# Altium integrated library Linear Technology Comparators.IntLib: 630 symbols (part 6 of 24)
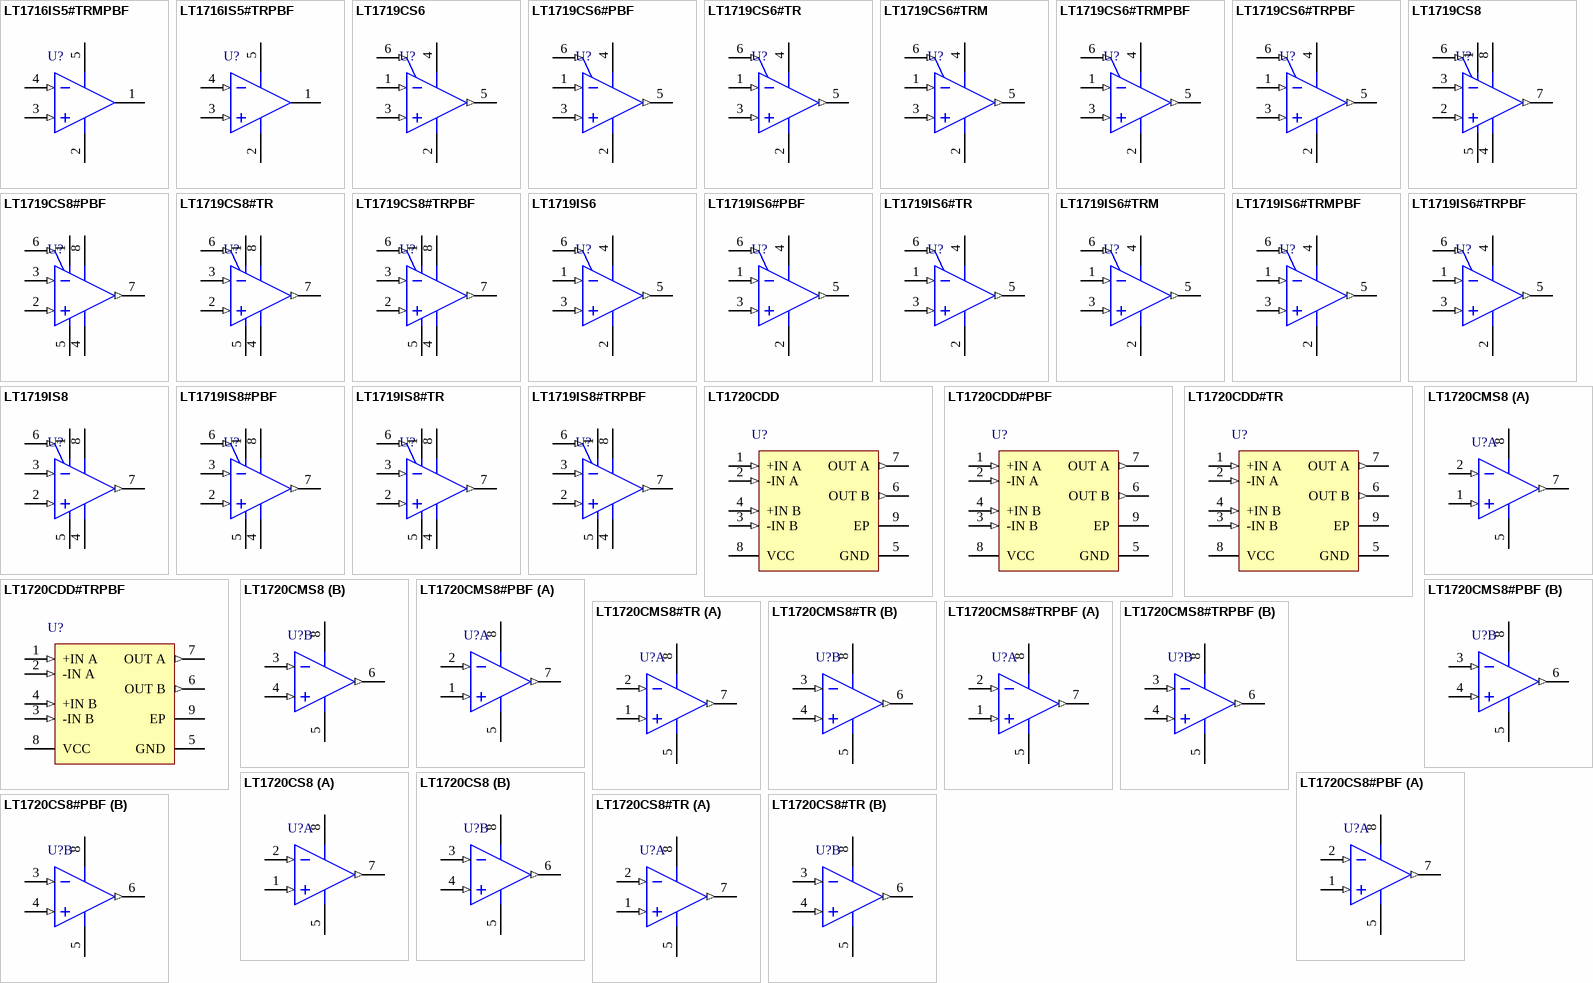
[diagram p29: symbols LT1716IS5#TRMPBF to LT1720CS8#TR]

## LT1719IS6#PBF
designator U?
4.5 ns Single / Dual Supply 3V / 5V Comparator with Rail-to-Rail Output, 1 Channel, 2.7 to 10.5 V, -40 to +85 degC, 6-pin Plastic TSOT-23 (S6); Generic Part Number: LT1719; Manufacturer: Linear Technology; PartNumber: LT1719IS6#PBF; Channels (#): 1; Prop Delay (us): 0.0042; Supply Current (uA) Typical: 4200; Vos (mV) Guaranteed: 2.5; Vos (mV) Typical: 0.4; Vs Max (V): 10.5; Vs Min (V): 2.7; DatasheetVersion: Rev A; PackageReference: S6; PackageDescription: 6-Pin Plastic TSOT-23, Body 2.9 x 1.63 mm, Pitch 0.95 mm; Supplier 1: Farnell; Supplier Part Number 1: 1858852; Supplier 2: Newark; Supplier Part Number 2: 77R2926; Features: Comparator, Separate In/Out Power Supply, Rail-to-Rail Out; RoHS: Y; Supply Voltage Range: 2.7 to 10.5 V; Mounting Technology: Surface Mount; Code_JEDEC: MO-193; ComponentLink1Description: Manufacturer URL; ComponentLink1URL: http://www.linear.com/; ComponentLink2Description: Datasheet; ComponentLink2URL: http://cds.linear.com/docs/en/datasheet/1719fa.pdf; ComponentLink3Description: Package Specification; ComponentLink3URL: http://cds.linear.com/docs/en/packaging/SOT_6_05-08-1636.pdf
footprint LT-S6_N (SOT23, 6-Leads, Body 2.9x1.63mm, Pitch 0.95mm, IPC Medium Density)
footprint LT-S6_L (SOT23, 6-Leads, Body 2.9x1.63mm, Pitch 0.95mm, IPC High Density)
footprint LT-S6_M (SOT23, 6-Leads, Body 2.9x1.63mm, Pitch 0.95mm, IPC Low Density)
pins: 1 -IN (in) "Inverting Input of Comparator", 2 V- (power) "Negative Supply, Usually Grounded.", 3 +IN (in) "Noninverting Input of Comparator.", 4 V+ (power) "Positive Supply Voltage.", 5 OUT (out) "Output of Comparator.", 6 SHDN (in) "Shutdown. Pull to ground to enable comparator."

## LT1719IS6#TR
designator U?
4.5 ns Single / Dual Supply 3V / 5V Comparator with Rail-to-Rail Output, 1 Channel, 2.7 to 10.5 V, -40 to +85 degC, 6-pin Plastic TSOT-23 (S6), Tape and Reel; Generic Part Number: LT1719; Manufacturer: Linear Technology; PartNumber: LT1719IS6#TR; Channels (#): 1; Prop Delay (us): 0.0042; Supply Current (uA) Typical: 4200; Vos (mV) Guaranteed: 2.5; Vos (mV) Typical: 0.4; Vs Max (V): 10.5; Vs Min (V): 2.7; DatasheetVersion: Rev A; PackageReference: S6; PackageDescription: 6-Pin Plastic TSOT-23, Body 2.9 x 1.63 mm, Pitch 0.95 mm; Supplier 1: Digi-Key; Supplier Part Number 1: LT1719IS6TR-ND; Supplier 2: Newark; Supplier Part Number 2: 57M5810; Features: Comparator, Separate In/Out Power Supply, Rail-to-Rail Out; RoHS: N; Supply Voltage Range: 2.7 to 10.5 V; Mounting Technology: Surface Mount; Code_JEDEC: MO-193; ComponentLink1Description: Manufacturer URL; ComponentLink1URL: http://www.linear.com/; ComponentLink2Description: Datasheet; ComponentLink2URL: http://cds.linear.com/docs/en/datasheet/1719fa.pdf; ComponentLink3Description: Package Specification; ComponentLink3URL: http://cds.linear.com/docs/en/packaging/SOT_6_05-08-1636.pdf
footprint LT-S6_N (SOT23, 6-Leads, Body 2.9x1.63mm, Pitch 0.95mm, IPC Medium Density)
footprint LT-S6_L (SOT23, 6-Leads, Body 2.9x1.63mm, Pitch 0.95mm, IPC High Density)
footprint LT-S6_M (SOT23, 6-Leads, Body 2.9x1.63mm, Pitch 0.95mm, IPC Low Density)
pins: 1 -IN (in) "Inverting Input of Comparator", 2 V- (power) "Negative Supply, Usually Grounded.", 3 +IN (in) "Noninverting Input of Comparator.", 4 V+ (power) "Positive Supply Voltage.", 5 OUT (out) "Output of Comparator.", 6 SHDN (in) "Shutdown. Pull to ground to enable comparator."

## LT1719IS6#TRM
designator U?
4.5 ns 3V / 5V Comparator with Rail-to-Rail Output, 1 Channel, 2.7 to 10.5 V, -40 to +85 degC, 6-pin Plastic TSOT-23 (S6), Mini Tape and Reel; Generic Part Number: LT1719; Manufacturer: Linear Technology; PartNumber: LT1719IS6#TRM; Channels (#): 1; Prop Delay (us): 0.0042; Supply Current (uA) Typical: 4200; Vos (mV) Guaranteed: 2.5; Vos (mV) Typical: 0.4; Vs Max (V): 10.5; Vs Min (V): 2.7; DatasheetVersion: Rev A; PackageReference: S6; PackageDescription: 6-Pin Plastic TSOT-23, Body 2.9 x 1.63 mm, Pitch 0.95 mm; Supplier 1: Digi-Key; Supplier Part Number 1: LT1719IS6#TRMTR-ND; Supplier 2: Digi-Key; Supplier Part Number 2: LT1719IS6#TRMCT-ND; Features: Comparator, Separate In/Out Power Supply, Rail-to-Rail Out; RoHS: N; Supply Voltage Range: 2.7 to 10.5 V; Mounting Technology: Surface Mount; Code_JEDEC: MO-193; ComponentLink1Description: Manufacturer URL; ComponentLink1URL: http://www.linear.com/; ComponentLink2Description: Datasheet; ComponentLink2URL: http://cds.linear.com/docs/en/datasheet/1719fa.pdf; ComponentLink3Description: Package Specification; ComponentLink3URL: http://cds.linear.com/docs/en/packaging/SOT_6_05-08-1636.pdf
footprint LT-S6_N (SOT23, 6-Leads, Body 2.9x1.63mm, Pitch 0.95mm, IPC Medium Density)
footprint LT-S6_L (SOT23, 6-Leads, Body 2.9x1.63mm, Pitch 0.95mm, IPC High Density)
footprint LT-S6_M (SOT23, 6-Leads, Body 2.9x1.63mm, Pitch 0.95mm, IPC Low Density)
pins: 1 -IN (in) "Inverting Input of Comparator", 2 V- (power) "Negative Supply, Usually Grounded.", 3 +IN (in) "Noninverting Input of Comparator.", 4 V+ (power) "Positive Supply Voltage.", 5 OUT (out) "Output of Comparator.", 6 SHDN (in) "Shutdown. Pull to ground to enable comparator."

## LT1719IS6#TRMPBF
designator U?
4.5 ns Single / Dual Supply 3V / 5V Comparator with Rail-to-Rail Output, 1 Channel, 2.7 to 10.5 V, -40 to +85 degC, 6-pin Plastic TSOT-23 (S6), Mini Tape and Reel; Generic Part Number: LT1719; Manufacturer: Linear Technology; PartNumber: LT1719IS6#TRMPBF; Channels (#): 1; Prop Delay (us): 0.0042; Supply Current (uA) Typical: 4200; Vos (mV) Guaranteed: 2.5; Vos (mV) Typical: 0.4; Vs Max (V): 10.5; Vs Min (V): 2.7; DatasheetVersion: Rev A; PackageReference: S6; PackageDescription: 6-Pin Plastic TSOT-23, Body 2.9 x 1.63 mm, Pitch 0.95 mm; Supplier 1: Digi-Key; Supplier Part Number 1: LT1719IS6#TRMPBFTR-ND; Supplier 2: Digi-Key; Supplier Part Number 2: LT1719IS6#TRMPBFCT-ND; Supplier 3: Digi-Key; Supplier Part Number 3: LT1719IS6#TRMPBFDKR-ND; Supplier 4: Farnell; Supplier Part Number 4: 1663773; Supplier 5: Farnell; Supplier Part Number 5: 1663773RL; Supplier 6: Newark; Supplier Part Number 6: 57M5812; Features: Comparator, Separate In/Out Power Supply, Rail-to-Rail Out; RoHS: Y; Supply Voltage Range: 2.7 to 10.5 V; Mounting Technology: Surface Mount; Code_JEDEC: MO-193; ComponentLink1Description: Manufacturer URL; ComponentLink1URL: http://www.linear.com/; ComponentLink2Description: Datasheet; ComponentLink2URL: http://cds.linear.com/docs/en/datasheet/1719fa.pdf; ComponentLink3Description: Package Specification; ComponentLink3URL: http://cds.linear.com/docs/en/packaging/SOT_6_05-08-1636.pdf
footprint LT-S6_N (SOT23, 6-Leads, Body 2.9x1.63mm, Pitch 0.95mm, IPC Medium Density)
footprint LT-S6_L (SOT23, 6-Leads, Body 2.9x1.63mm, Pitch 0.95mm, IPC High Density)
footprint LT-S6_M (SOT23, 6-Leads, Body 2.9x1.63mm, Pitch 0.95mm, IPC Low Density)
pins: 1 -IN (in) "Inverting Input of Comparator", 2 V- (power) "Negative Supply, Usually Grounded.", 3 +IN (in) "Noninverting Input of Comparator.", 4 V+ (power) "Positive Supply Voltage.", 5 OUT (out) "Output of Comparator.", 6 SHDN (in) "Shutdown. Pull to ground to enable comparator."

## LT1719IS6#TRPBF
designator U?
4.5 ns Single / Dual Supply 3V / 5V Comparator with Rail-to-Rail Output, 1 Channel, 2.7 to 10.5 V, -40 to +85 degC, 6-pin Plastic TSOT-23 (S6), Tape and Reel; Generic Part Number: LT1719; Manufacturer: Linear Technology; PartNumber: LT1719IS6#TRPBF; Channels (#): 1; Prop Delay (us): 0.0042; Supply Current (uA) Typical: 4200; Vos (mV) Guaranteed: 2.5; Vos (mV) Typical: 0.4; Vs Max (V): 10.5; Vs Min (V): 2.7; DatasheetVersion: Rev A; PackageReference: S6; PackageDescription: 6-Pin Plastic TSOT-23, Body 2.9 x 1.63 mm, Pitch 0.95 mm; Supplier 1: Digi-Key; Supplier Part Number 1: LT1719IS6#TRPBF-ND; Supplier 2: Newark; Supplier Part Number 2: 57M5813; Features: Comparator, Separate In/Out Power Supply, Rail-to-Rail Out; RoHS: Y; Supply Voltage Range: 2.7 to 10.5 V; Mounting Technology: Surface Mount; Code_JEDEC: MO-193; ComponentLink1Description: Manufacturer URL; ComponentLink1URL: http://www.linear.com/; ComponentLink2Description: Datasheet; ComponentLink2URL: http://cds.linear.com/docs/en/datasheet/1719fa.pdf; ComponentLink3Description: Package Specification; ComponentLink3URL: http://cds.linear.com/docs/en/packaging/SOT_6_05-08-1636.pdf
footprint LT-S6_N (SOT23, 6-Leads, Body 2.9x1.63mm, Pitch 0.95mm, IPC Medium Density)
footprint LT-S6_L (SOT23, 6-Leads, Body 2.9x1.63mm, Pitch 0.95mm, IPC High Density)
footprint LT-S6_M (SOT23, 6-Leads, Body 2.9x1.63mm, Pitch 0.95mm, IPC Low Density)
pins: 1 -IN (in) "Inverting Input of Comparator", 2 V- (power) "Negative Supply, Usually Grounded.", 3 +IN (in) "Noninverting Input of Comparator.", 4 V+ (power) "Positive Supply Voltage.", 5 OUT (out) "Output of Comparator.", 6 SHDN (in) "Shutdown. Pull to ground to enable comparator."

## LT1719IS8
designator U?
4.5 ns Dual Supply 3 V / 5 V Comparator with Rail-to-Rail Output, 1 Channel, 2.7 to 10.5 V, -40 to +85 degC, 8-pin SOP (S8); Generic Part Number: LT1719; Manufacturer: Linear Technology; PartNumber: LT1719IS8; Channels (#): 1; Prop Delay (us): 0.0042; Supply Current (uA) Typical: 4200; Vos (mV) Guaranteed: 2.5; Vos (mV) Typical: 0.4; Vs Max (V): 10.5; Vs Min (V): 2.7; DatasheetVersion: Rev A; PackageReference: S8; PackageDescription: 8-Pin Plastic Small Outline (Narrow .150 Inch), Body 4.9 x 3.9 mm, Pitch 1.27 mm; Supplier 1: Digi-Key; Supplier Part Number 1: LT1719IS8-ND; Supplier 2: Newark; Supplier Part Number 2: 57M5814; Features: Comparator, Separate In/Out Power Supply, Rail-to-Rail Out; RoHS: N; Supply Voltage Range: 2.7 to 10.5 V; Mounting Technology: Surface Mount; ComponentLink1Description: Manufacturer URL; ComponentLink1URL: http://www.linear.com/; ComponentLink2Description: Datasheet; ComponentLink2URL: http://cds.linear.com/docs/en/datasheet/1719fa.pdf; ComponentLink3Description: Package Specification; ComponentLink3URL: http://cds.linear.com/docs/en/packaging/05081610_G_SO8.pdf
footprint LT-S8_N (SOP, 8-Leads, Body 4.9x3.9mm, Pitch 1.27mm, IPC Medium Density)
footprint LT-S8_L (SOP, 8-Leads, Body 4.9x3.9mm, Pitch 1.27mm, IPC High Density)
footprint LT-S8_M (SOP, 8-Leads, Body 4.9x3.9mm, Pitch 1.27mm, IPC Low Density)
pins: 1 VCC (power) "Positive Supply Voltage for Input Stage.", 2 +IN (in) "Noninverting Input of Comparator.", 3 -IN (in) "Inverting Input of Comparator.", 4 VEE (power) "Negative Supply Voltage for Input Stage and Chip Substrate.", 5 GND (power) "Ground.", 6 SHDN (in) "Shutdown. Pull to ground to enable comparator.", 7 OUT (out) "Output of Comparator.", 8 +VS (power) "Positive Supply Voltage for Output Stage."

## LT1719IS8#PBF
designator U?
4.5 ns Single / Dual Supply 3 V / 5 V Comparator with Rail-to-Rail Output, 1 Channel, 2.7 to 10.5 V, -40 to +85 degC, 8-pin SOP (S8); Generic Part Number: LT1719; Manufacturer: Linear Technology; PartNumber: LT1719IS8#PBF; Channels (#): 1; Prop Delay (us): 0.0042; Supply Current (uA) Typical: 4200; Vos (mV) Guaranteed: 2.5; Vos (mV) Typical: 0.4; Vs Max (V): 10.5; Vs Min (V): 2.7; DatasheetVersion: Rev A; PackageReference: S8; PackageDescription: 8-Pin Plastic Small Outline (Narrow .150 Inch), Body 4.9 x 3.9 mm, Pitch 1.27 mm; Supplier 1: Digi-Key; Supplier Part Number 1: LT1719IS8#PBF-ND; Supplier 2: Farnell; Supplier Part Number 2: 2254826; Supplier 3: Newark; Supplier Part Number 3: 57M5815; Features: Comparator, Separate In/Out Power Supply, Rail-to-Rail Out; RoHS: Y; Supply Voltage Range: 2.7 to 10.5 V; Mounting Technology: Surface Mount; ComponentLink1Description: Manufacturer URL; ComponentLink1URL: http://www.linear.com/; ComponentLink2Description: Datasheet; ComponentLink2URL: http://cds.linear.com/docs/en/datasheet/1719fa.pdf; ComponentLink3Description: Package Specification; ComponentLink3URL: http://cds.linear.com/docs/en/packaging/05081610_G_SO8.pdf
footprint LT-S8_N (SOP, 8-Leads, Body 4.9x3.9mm, Pitch 1.27mm, IPC Medium Density)
footprint LT-S8_L (SOP, 8-Leads, Body 4.9x3.9mm, Pitch 1.27mm, IPC High Density)
footprint LT-S8_M (SOP, 8-Leads, Body 4.9x3.9mm, Pitch 1.27mm, IPC Low Density)
pins: 1 VCC (power) "Positive Supply Voltage for Input Stage.", 2 +IN (in) "Noninverting Input of Comparator.", 3 -IN (in) "Inverting Input of Comparator.", 4 VEE (power) "Negative Supply Voltage for Input Stage and Chip Substrate.", 5 GND (power) "Ground.", 6 SHDN (in) "Shutdown. Pull to ground to enable comparator.", 7 OUT (out) "Output of Comparator.", 8 +VS (power) "Positive Supply Voltage for Output Stage."

## LT1719IS8#TR
designator U?
4.5 ns Dual Supply 3 V / 5 V Comparator with Rail-to-Rail Output, 1 Channel, 2.7 to 10.5 V, -40 to +85 degC, 8-pin SOP (S8), Tape and Reel; Generic Part Number: LT1719; Manufacturer: Linear Technology; PartNumber: LT1719IS8#TR; Channels (#): 1; Prop Delay (us): 0.0042; Supply Current (uA) Typical: 4200; Vos (mV) Guaranteed: 2.5; Vos (mV) Typical: 0.4; Vs Max (V): 10.5; Vs Min (V): 2.7; DatasheetVersion: Rev A; PackageReference: S8; PackageDescription: 8-Pin Plastic Small Outline (Narrow .150 Inch), Body 4.9 x 3.9 mm, Pitch 1.27 mm; Supplier 1: Digi-Key; Supplier Part Number 1: LT1719IS8#TR-ND; Supplier 2: Newark; Supplier Part Number 2: 57M5816; Features: Comparator, Separate In/Out Power Supply, Rail-to-Rail Out; RoHS: N; Supply Voltage Range: 2.7 to 10.5 V; Mounting Technology: Surface Mount; ComponentLink1Description: Manufacturer URL; ComponentLink1URL: http://www.linear.com/; ComponentLink2Description: Datasheet; ComponentLink2URL: http://cds.linear.com/docs/en/datasheet/1719fa.pdf; ComponentLink3Description: Package Specification; ComponentLink3URL: http://cds.linear.com/docs/en/packaging/05081610_G_SO8.pdf
footprint LT-S8_N (SOP, 8-Leads, Body 4.9x3.9mm, Pitch 1.27mm, IPC Medium Density)
footprint LT-S8_L (SOP, 8-Leads, Body 4.9x3.9mm, Pitch 1.27mm, IPC High Density)
footprint LT-S8_M (SOP, 8-Leads, Body 4.9x3.9mm, Pitch 1.27mm, IPC Low Density)
pins: 1 VCC (power) "Positive Supply Voltage for Input Stage.", 2 +IN (in) "Noninverting Input of Comparator.", 3 -IN (in) "Inverting Input of Comparator.", 4 VEE (power) "Negative Supply Voltage for Input Stage and Chip Substrate.", 5 GND (power) "Ground.", 6 SHDN (in) "Shutdown. Pull to ground to enable comparator.", 7 OUT (out) "Output of Comparator.", 8 +VS (power) "Positive Supply Voltage for Output Stage."

## LT1719IS8#TRPBF
designator U?
4.5 ns Dual Supply 3 V / 5 V Comparator with Rail-to-Rail Output, 1 Channel, 2.7 to 10.5 V, -40 to +85 degC, 8-pin SOP (S8), Tape and Reel; Generic Part Number: LT1719; Manufacturer: Linear Technology; PartNumber: LT1719IS8#TRPBF; Channels (#): 1; Prop Delay (us): 0.0042; Supply Current (uA) Typical: 4200; Vos (mV) Guaranteed: 2.5; Vos (mV) Typical: 0.4; Vs Max (V): 10.5; Vs Min (V): 2.7; DatasheetVersion: Rev A; PackageReference: S8; PackageDescription: 8-Pin Plastic Small Outline (Narrow .150 Inch), Body 4.9 x 3.9 mm, Pitch 1.27 mm; Supplier 1: Digi-Key; Supplier Part Number 1: LT1719IS8#TRPBF-ND; Supplier 2: Newark; Supplier Part Number 2: 57M5817; Features: Comparator, Separate In/Out Power Supply, Rail-to-Rail Out; RoHS: Y; Supply Voltage Range: 2.7 to 10.5 V; Mounting Technology: Surface Mount; ComponentLink1Description: Manufacturer URL; ComponentLink1URL: http://www.linear.com/; ComponentLink2Description: Datasheet; ComponentLink2URL: http://cds.linear.com/docs/en/datasheet/1719fa.pdf; ComponentLink3Description: Package Specification; ComponentLink3URL: http://cds.linear.com/docs/en/packaging/05081610_G_SO8.pdf
footprint LT-S8_N (SOP, 8-Leads, Body 4.9x3.9mm, Pitch 1.27mm, IPC Medium Density)
footprint LT-S8_L (SOP, 8-Leads, Body 4.9x3.9mm, Pitch 1.27mm, IPC High Density)
footprint LT-S8_M (SOP, 8-Leads, Body 4.9x3.9mm, Pitch 1.27mm, IPC Low Density)
pins: 1 VCC (power) "Positive Supply Voltage for Input Stage.", 2 +IN (in) "Noninverting Input of Comparator.", 3 -IN (in) "Inverting Input of Comparator.", 4 VEE (power) "Negative Supply Voltage for Input Stage and Chip Substrate.", 5 GND (power) "Ground.", 6 SHDN (in) "Shutdown. Pull to ground to enable comparator.", 7 OUT (out) "Output of Comparator.", 8 +VS (power) "Positive Supply Voltage for Output Stage."

## LT1720CDD
designator U?
4.5 ns, Single Supply 3 V / 5 V Comparator with Rail-to-Rail Outputs, 2 Channels, 2.7 to 6 V, 0 to +70 degC, 8-pin Plastic DFN (DD8); Generic Part Number: LT1720; Manufacturer: Linear Technology; PartNumber: LT1720CDD; Channels (#): 2; Prop Delay (us): 0.0045; Supply Current (uA) Typical: 4000; Vos (mV) Guaranteed: 3; Vos (mV) Typical: 1; Vs Max (V): 6; Vs Min (V): 2.7; DatasheetVersion: Rev C; PackageReference: DD8; PackageDescription: 8-Pin Plastic DFN, Body 3 × 3 mm, Pitch 0.5 mm; Supplier 1: Digi-Key; Supplier Part Number 1: LT1720CDD-ND; Features: Comparator, Rail-to-Rail Out; RoHS: N; Supply Voltage Range: 2.7 to 6 V; Mounting Technology: Surface Mount; Code_JEDEC: M0-229; ComponentLink1Description: Manufacturer URL; ComponentLink1URL: http://www.linear.com/; ComponentLink2Description: Datasheet; ComponentLink2URL: http://cds.linear.com/docs/en/datasheet/17201fc.pdf; ComponentLink3Description: Package Specification; ComponentLink3URL: http://cds.linear.com/docs/en/packaging/DFN_8_05-08-1698.pdf
footprint LT-DD8_V (SON, 8-Leads, Body 3x3mm, Pitch 0.5mm, Thermal Pad 2.38x1.65mm)
pins: 1 +IN A (in) "Noninverting Input of Comparator A.", 2 -IN A (in) "Inverting Input of Comparator A.", 3 -IN B (in) "Inverting Input of Comparator B.", 4 +IN B (in) "Noninverting Input of Comparator B.", 5 GND (power) "Ground.", 6 OUT B (out) "Output of Comparator B.", 7 OUT A (out) "Output of Comparator A.", 8 VCC (power) "Positive Supply Voltage.", 9 EP (power)

## LT1720CDD#PBF
designator U?
4.5 ns, Single Supply 3 V / 5 V Comparator with Rail-to-Rail Outputs, 2 Channels, 2.7 to 6 V, 0 to +70 degC, 8-pin Plastic DFN (DD8); Generic Part Number: LT1720; Manufacturer: Linear Technology; PartNumber: LT1720CDD#PBF; Channels (#): 2; Prop Delay (us): 0.0045; Supply Current (uA) Typical: 4000; Vos (mV) Guaranteed: 3; Vos (mV) Typical: 1; Vs Max (V): 6; Vs Min (V): 2.7; DatasheetVersion: Rev C; PackageReference: DD8; PackageDescription: 8-Pin Plastic DFN, Body 3 × 3 mm, Pitch 0.5 mm; Supplier 1: Digi-Key; Supplier Part Number 1: LT1720CDD#PBF-ND; Supplier 2: Farnell; Supplier Part Number 2: 2294777; Features: Comparator, Rail-to-Rail Out; RoHS: Y; Supply Voltage Range: 2.7 to 6 V; Mounting Technology: Surface Mount; Code_JEDEC: M0-229; ComponentLink1Description: Manufacturer URL; ComponentLink1URL: http://www.linear.com/; ComponentLink2Description: Datasheet; ComponentLink2URL: http://cds.linear.com/docs/en/datasheet/17201fc.pdf; ComponentLink3Description: Package Specification; ComponentLink3URL: http://cds.linear.com/docs/en/packaging/DFN_8_05-08-1698.pdf
footprint LT-DD8_V (SON, 8-Leads, Body 3x3mm, Pitch 0.5mm, Thermal Pad 2.38x1.65mm)
pins: 1 +IN A (in) "Noninverting Input of Comparator A.", 2 -IN A (in) "Inverting Input of Comparator A.", 3 -IN B (in) "Inverting Input of Comparator B.", 4 +IN B (in) "Noninverting Input of Comparator B.", 5 GND (power) "Ground.", 6 OUT B (out) "Output of Comparator B.", 7 OUT A (out) "Output of Comparator A.", 8 VCC (power) "Positive Supply Voltage.", 9 EP (power)

## LT1720CDD#TR
designator U?
4.5 ns, Single Supply 3 V / 5 V Comparator with Rail-to-Rail Outputs, 2 Channels, 2.7 to 6 V, 0 to +70 degC, 8-pin Plastic DFN (DD8), Tape and Reel; Generic Part Number: LT1720; Manufacturer: Linear Technology; PartNumber: LT1720CDD#TR; Channels (#): 2; Prop Delay (us): 0.0045; Supply Current (uA) Typical: 4000; Vos (mV) Guaranteed: 3; Vos (mV) Typical: 1; Vs Max (V): 6; Vs Min (V): 2.7; DatasheetVersion: Rev C; PackageReference: DD8; PackageDescription: 8-Pin Plastic DFN, Body 3 × 3 mm, Pitch 0.5 mm; Supplier 1: Digi-Key; Supplier Part Number 1: LT1720CDD#TR-ND; Features: Comparator, Rail-to-Rail Out; RoHS: N; Supply Voltage Range: 2.7 to 6 V; Mounting Technology: Surface Mount; Code_JEDEC: M0-229; ComponentLink1Description: Manufacturer URL; ComponentLink1URL: http://www.linear.com/; ComponentLink2Description: Datasheet; ComponentLink2URL: http://cds.linear.com/docs/en/datasheet/17201fc.pdf; ComponentLink3Description: Package Specification; ComponentLink3URL: http://cds.linear.com/docs/en/packaging/DFN_8_05-08-1698.pdf
footprint LT-DD8_V (SON, 8-Leads, Body 3x3mm, Pitch 0.5mm, Thermal Pad 2.38x1.65mm)
pins: 1 +IN A (in) "Noninverting Input of Comparator A.", 2 -IN A (in) "Inverting Input of Comparator A.", 3 -IN B (in) "Inverting Input of Comparator B.", 4 +IN B (in) "Noninverting Input of Comparator B.", 5 GND (power) "Ground.", 6 OUT B (out) "Output of Comparator B.", 7 OUT A (out) "Output of Comparator A.", 8 VCC (power) "Positive Supply Voltage.", 9 EP (power)

## LT1720CDD#TRPBF
designator U?
4.5 ns, Single Supply 3 V / 5 V Comparator with Rail-to-Rail Outputs, 2 Channels, 2.7 to 6 V, 0 to +70 degC, 8-pin Plastic DFN (DD8), Tape and Reel; Generic Part Number: LT1720; Manufacturer: Linear Technology; PartNumber: LT1720CDD#TRPBF; Channels (#): 2; Prop Delay (us): 0.0045; Supply Current (uA) Typical: 4000; Vos (mV) Guaranteed: 3; Vos (mV) Typical: 1; Vs Max (V): 6; Vs Min (V): 2.7; DatasheetVersion: Rev C; PackageReference: DD8; PackageDescription: 8-Pin Plastic DFN, Body 3 × 3 mm, Pitch 0.5 mm; Supplier 1: Digi-Key; Supplier Part Number 1: LT1720CDD#TRPBF-ND; Features: Comparator, Rail-to-Rail Out; RoHS: Y; Supply Voltage Range: 2.7 to 6 V; Mounting Technology: Surface Mount; Code_JEDEC: M0-229; ComponentLink1Description: Manufacturer URL; ComponentLink1URL: http://www.linear.com/; ComponentLink2Description: Datasheet; ComponentLink2URL: http://cds.linear.com/docs/en/datasheet/17201fc.pdf; ComponentLink3Description: Package Specification; ComponentLink3URL: http://cds.linear.com/docs/en/packaging/DFN_8_05-08-1698.pdf
footprint LT-DD8_V (SON, 8-Leads, Body 3x3mm, Pitch 0.5mm, Thermal Pad 2.38x1.65mm)
pins: 1 +IN A (in) "Noninverting Input of Comparator A.", 2 -IN A (in) "Inverting Input of Comparator A.", 3 -IN B (in) "Inverting Input of Comparator B.", 4 +IN B (in) "Noninverting Input of Comparator B.", 5 GND (power) "Ground.", 6 OUT B (out) "Output of Comparator B.", 7 OUT A (out) "Output of Comparator A.", 8 VCC (power) "Positive Supply Voltage.", 9 EP (power)

## LT1720CMS8
designator U?
4.5 ns, Single Supply 3 V / 5 V Comparator with Rail-to-Rail Outputs, 2 Channels, 2.7 to 6 V, 0 to +70 degC, 8-pin Plastic MSOP (MS8); Generic Part Number: LT1720; Manufacturer: Linear Technology; PartNumber: LT1720CMS8; Channels (#): 2; Prop Delay (us): 0.0045; Supply Current (uA) Typical: 4000; Vos (mV) Guaranteed: 3; Vos (mV) Typical: 1; Vs Max (V): 6; Vs Min (V): 2.7; DatasheetVersion: Rev C; PackageReference: MS8; PackageDescription: 8-Pin Plastic MSOP, Body 3 x 3 mm, Pitch 0.65 mm; Supplier 1: Digi-Key; Supplier Part Number 1: LT1720CMS8-ND; Features: Comparator, Rail-to-Rail Out; RoHS: N; Supply Voltage Range: 2.7 to 6 V; Mounting Technology: Surface Mount; ComponentLink1Description: Manufacturer URL; ComponentLink1URL: http://www.linear.com/; ComponentLink2Description: Datasheet; ComponentLink2URL: http://cds.linear.com/docs/en/datasheet/17201fc.pdf; ComponentLink3Description: Package Specification; ComponentLink3URL: http://cds.linear.com/docs/en/packaging/MSOP_8_05-08-1660.pdf
footprint LT-MS8_N (SOP, 8-Leads, Body 3x3mm, Pitch 0.65mm, IPC Medium Density)
footprint LT-MS8_L (SOP, 8-Leads, Body 3x3mm, Pitch 0.65mm, IPC High Density)
footprint LT-MS8_M (SOP, 8-Leads, Body 3x3mm, Pitch 0.65mm, IPC Low Density)
pins on every part: 5 GND (power), 8 VCC (power)
part A pins: 1 +INA (in), 2 -INA (in), 7 OUTA (out)
part B pins: 3 -INB (in), 4 +INB (in), 6 OUTB (out)

## LT1720CMS8#PBF
designator U?
4.5 ns, Single Supply 3 V / 5 V Comparator with Rail-to-Rail Outputs, 2 Channels, 2.7 to 6 V, 0 to +70 degC, 8-pin Plastic MSOP (MS8); Generic Part Number: LT1720; Manufacturer: Linear Technology; PartNumber: LT1720CMS8#PBF; Channels (#): 2; Prop Delay (us): 0.0045; Supply Current (uA) Typical: 4000; Vos (mV) Guaranteed: 3; Vos (mV) Typical: 1; Vs Max (V): 6; Vs Min (V): 2.7; DatasheetVersion: Rev C; PackageReference: MS8; PackageDescription: 8-Pin Plastic MSOP, Body 3 x 3 mm, Pitch 0.65 mm; Supplier 1: Digi-Key; Supplier Part Number 1: LT1720CMS8#PBF-ND; Supplier 2: Farnell; Supplier Part Number 2: 2254828; Supplier 3: Newark; Supplier Part Number 3: 57M5823; Features: Comparator, Rail-to-Rail Out; RoHS: Y; Supply Voltage Range: 2.7 to 6 V; Mounting Technology: Surface Mount; ComponentLink1Description: Manufacturer URL; ComponentLink1URL: http://www.linear.com/; ComponentLink2Description: Datasheet; ComponentLink2URL: http://cds.linear.com/docs/en/datasheet/17201fc.pdf; ComponentLink3Description: Package Specification; ComponentLink3URL: http://cds.linear.com/docs/en/packaging/MSOP_8_05-08-1660.pdf
footprint LT-MS8_N (SOP, 8-Leads, Body 3x3mm, Pitch 0.65mm, IPC Medium Density)
footprint LT-MS8_L (SOP, 8-Leads, Body 3x3mm, Pitch 0.65mm, IPC High Density)
footprint LT-MS8_M (SOP, 8-Leads, Body 3x3mm, Pitch 0.65mm, IPC Low Density)
pins on every part: 5 GND (power), 8 VCC (power)
part A pins: 1 +INA (in), 2 -INA (in), 7 OUTA (out)
part B pins: 3 -INB (in), 4 +INB (in), 6 OUTB (out)

## LT1720CMS8#TR
designator U?
4.5 ns, Single Supply 3 V / 5 V Comparator with Rail-to-Rail Outputs, 2 Channels, 2.7 to 6 V, 0 to +70 degC, 8-pin Plastic MSOP (MS8), Tape and Reel; Generic Part Number: LT1720; Manufacturer: Linear Technology; PartNumber: LT1720CMS8#TR; Channels (#): 2; Prop Delay (us): 0.0045; Supply Current (uA) Typical: 4000; Vos (mV) Guaranteed: 3; Vos (mV) Typical: 1; Vs Max (V): 6; Vs Min (V): 2.7; DatasheetVersion: Rev C; PackageReference: MS8; PackageDescription: 8-Pin Plastic MSOP, Body 3 x 3 mm, Pitch 0.65 mm; Supplier 1: Digi-Key; Supplier Part Number 1: LT1720CMS8#TR-ND; Features: Comparator, Rail-to-Rail Out; RoHS: N; Supply Voltage Range: 2.7 to 6 V; Mounting Technology: Surface Mount; ComponentLink1Description: Manufacturer URL; ComponentLink1URL: http://www.linear.com/; ComponentLink2Description: Datasheet; ComponentLink2URL: http://cds.linear.com/docs/en/datasheet/17201fc.pdf; ComponentLink3Description: Package Specification; ComponentLink3URL: http://cds.linear.com/docs/en/packaging/MSOP_8_05-08-1660.pdf
footprint LT-MS8_N (SOP, 8-Leads, Body 3x3mm, Pitch 0.65mm, IPC Medium Density)
footprint LT-MS8_L (SOP, 8-Leads, Body 3x3mm, Pitch 0.65mm, IPC High Density)
footprint LT-MS8_M (SOP, 8-Leads, Body 3x3mm, Pitch 0.65mm, IPC Low Density)
pins on every part: 5 GND (power), 8 VCC (power)
part A pins: 1 +INA (in), 2 -INA (in), 7 OUTA (out)
part B pins: 3 -INB (in), 4 +INB (in), 6 OUTB (out)

## LT1720CMS8#TRPBF
designator U?
4.5 ns, Single Supply 3 V / 5 V Comparator with Rail-to-Rail Outputs, 2 Channels, 2.7 to 6 V, 0 to +70 degC, 8-pin Plastic MSOP (MS8), Tape and Reel; Generic Part Number: LT1720; Manufacturer: Linear Technology; PartNumber: LT1720CMS8#TRPBF; Channels (#): 2; Prop Delay (us): 0.0045; Supply Current (uA) Typical: 4000; Vos (mV) Guaranteed: 3; Vos (mV) Typical: 1; Vs Max (V): 6; Vs Min (V): 2.7; DatasheetVersion: Rev C; PackageReference: MS8; PackageDescription: 8-Pin Plastic MSOP, Body 3 x 3 mm, Pitch 0.65 mm; Supplier 1: Digi-Key; Supplier Part Number 1: LT1720CMS8#TRPBF-ND; Features: Comparator, Rail-to-Rail Out; RoHS: Y; Supply Voltage Range: 2.7 to 6 V; Mounting Technology: Surface Mount; ComponentLink1Description: Manufacturer URL; ComponentLink1URL: http://www.linear.com/; ComponentLink2Description: Datasheet; ComponentLink2URL: http://cds.linear.com/docs/en/datasheet/17201fc.pdf; ComponentLink3Description: Package Specification; ComponentLink3URL: http://cds.linear.com/docs/en/packaging/MSOP_8_05-08-1660.pdf
footprint LT-MS8_N (SOP, 8-Leads, Body 3x3mm, Pitch 0.65mm, IPC Medium Density)
footprint LT-MS8_L (SOP, 8-Leads, Body 3x3mm, Pitch 0.65mm, IPC High Density)
footprint LT-MS8_M (SOP, 8-Leads, Body 3x3mm, Pitch 0.65mm, IPC Low Density)
pins on every part: 5 GND (power), 8 VCC (power)
part A pins: 1 +INA (in), 2 -INA (in), 7 OUTA (out)
part B pins: 3 -INB (in), 4 +INB (in), 6 OUTB (out)

## LT1720CS8
designator U?
4.5 ns, Single Supply 3 V / 5 V Comparator with Rail-to-Rail Outputs, 2 Channels, 2.7 to 6 V, 0 to +70 degC, 8-pin SOP (S8); Generic Part Number: LT1720; Manufacturer: Linear Technology; PartNumber: LT1720CS8; Channels (#): 2; Prop Delay (us): 0.0045; Supply Current (uA) Typical: 4000; Vos (mV) Guaranteed: 3; Vos (mV) Typical: 1; Vs Max (V): 6; Vs Min (V): 2.7; DatasheetVersion: Rev C; PackageReference: S8; PackageDescription: 8-Pin Plastic Small Outline (Narrow .150 Inch), Body 4.9 x 3.9 mm, Pitch 1.27 mm; Supplier 1: Digi-Key; Supplier Part Number 1: LT1720CS8-ND; Supplier 2: Newark; Supplier Part Number 2: 57M5826; Features: Comparator, Rail-to-Rail Out; RoHS: N; Supply Voltage Range: 2.7 to 6 V; Mounting Technology: Surface Mount; ComponentLink1Description: Manufacturer URL; ComponentLink1URL: http://www.linear.com/; ComponentLink2Description: Datasheet; ComponentLink2URL: http://cds.linear.com/docs/en/datasheet/17201fc.pdf; ComponentLink3Description: Package Specification; ComponentLink3URL: http://cds.linear.com/docs/en/packaging/05081610_G_SO8.pdf
footprint LT-S8_N (SOP, 8-Leads, Body 4.9x3.9mm, Pitch 1.27mm, IPC Medium Density)
footprint LT-S8_L (SOP, 8-Leads, Body 4.9x3.9mm, Pitch 1.27mm, IPC High Density)
footprint LT-S8_M (SOP, 8-Leads, Body 4.9x3.9mm, Pitch 1.27mm, IPC Low Density)
pins on every part: 5 GND (power), 8 VCC (power)
part A pins: 1 +INA (in), 2 -INA (in), 7 OUTA (out)
part B pins: 3 -INB (in), 4 +INB (in), 6 OUTB (out)

## LT1720CS8#PBF
designator U?
4.5 ns, Single Supply 3 V / 5 V Comparator with Rail-to-Rail Outputs, 2 Channels, 2.7 to 6 V, 0 to +70 degC, 8-pin SOP (S8); Generic Part Number: LT1720; Manufacturer: Linear Technology; PartNumber: LT1720CS8#PBF; Channels (#): 2; Prop Delay (us): 0.0045; Supply Current (uA) Typical: 4000; Vos (mV) Guaranteed: 3; Vos (mV) Typical: 1; Vs Max (V): 6; Vs Min (V): 2.7; DatasheetVersion: Rev C; PackageReference: S8; PackageDescription: 8-Pin Plastic Small Outline (Narrow .150 Inch), Body 4.9 x 3.9 mm, Pitch 1.27 mm; Supplier 1: Digi-Key; Supplier Part Number 1: LT1720CS8#PBF-ND; Supplier 2: Farnell; Supplier Part Number 2: 1651907; Supplier 3: Newark; Supplier Part Number 3: 57M5827; Features: Comparator, Rail-to-Rail Out; RoHS: Y; Supply Voltage Range: 2.7 to 6 V; Mounting Technology: Surface Mount; ComponentLink1Description: Manufacturer URL; ComponentLink1URL: http://www.linear.com/; ComponentLink2Description: Datasheet; ComponentLink2URL: http://cds.linear.com/docs/en/datasheet/17201fc.pdf; ComponentLink3Description: Package Specification; ComponentLink3URL: http://cds.linear.com/docs/en/packaging/05081610_G_SO8.pdf
footprint LT-S8_N (SOP, 8-Leads, Body 4.9x3.9mm, Pitch 1.27mm, IPC Medium Density)
footprint LT-S8_L (SOP, 8-Leads, Body 4.9x3.9mm, Pitch 1.27mm, IPC High Density)
footprint LT-S8_M (SOP, 8-Leads, Body 4.9x3.9mm, Pitch 1.27mm, IPC Low Density)
pins on every part: 5 GND (power), 8 VCC (power)
part A pins: 1 +INA (in), 2 -INA (in), 7 OUTA (out)
part B pins: 3 -INB (in), 4 +INB (in), 6 OUTB (out)

## LT1720CS8#TR
designator U?
4.5 ns, Single Supply 3 V / 5 V Comparator with Rail-to-Rail Outputs, 2 Channels, 2.7 to 6 V, 0 to +70 degC, 8-pin SOP (S8), Tape and Reel; Generic Part Number: LT1720; Manufacturer: Linear Technology; PartNumber: LT1720CS8#TR; Channels (#): 2; Prop Delay (us): 0.0045; Supply Current (uA) Typical: 4000; Vos (mV) Guaranteed: 3; Vos (mV) Typical: 1; Vs Max (V): 6; Vs Min (V): 2.7; DatasheetVersion: Rev C; PackageReference: S8; PackageDescription: 8-Pin Plastic Small Outline (Narrow .150 Inch), Body 4.9 x 3.9 mm, Pitch 1.27 mm; Supplier 1: Digi-Key; Supplier Part Number 1: LT1720CS8#TR-ND; Features: Comparator, Rail-to-Rail Out; RoHS: N; Supply Voltage Range: 2.7 to 6 V; Mounting Technology: Surface Mount; ComponentLink1Description: Manufacturer URL; ComponentLink1URL: http://www.linear.com/; ComponentLink2Description: Datasheet; ComponentLink2URL: http://cds.linear.com/docs/en/datasheet/17201fc.pdf; ComponentLink3Description: Package Specification; ComponentLink3URL: http://cds.linear.com/docs/en/packaging/05081610_G_SO8.pdf
footprint LT-S8_N (SOP, 8-Leads, Body 4.9x3.9mm, Pitch 1.27mm, IPC Medium Density)
footprint LT-S8_L (SOP, 8-Leads, Body 4.9x3.9mm, Pitch 1.27mm, IPC High Density)
footprint LT-S8_M (SOP, 8-Leads, Body 4.9x3.9mm, Pitch 1.27mm, IPC Low Density)
pins on every part: 5 GND (power), 8 VCC (power)
part A pins: 1 +INA (in), 2 -INA (in), 7 OUTA (out)
part B pins: 3 -INB (in), 4 +INB (in), 6 OUTB (out)

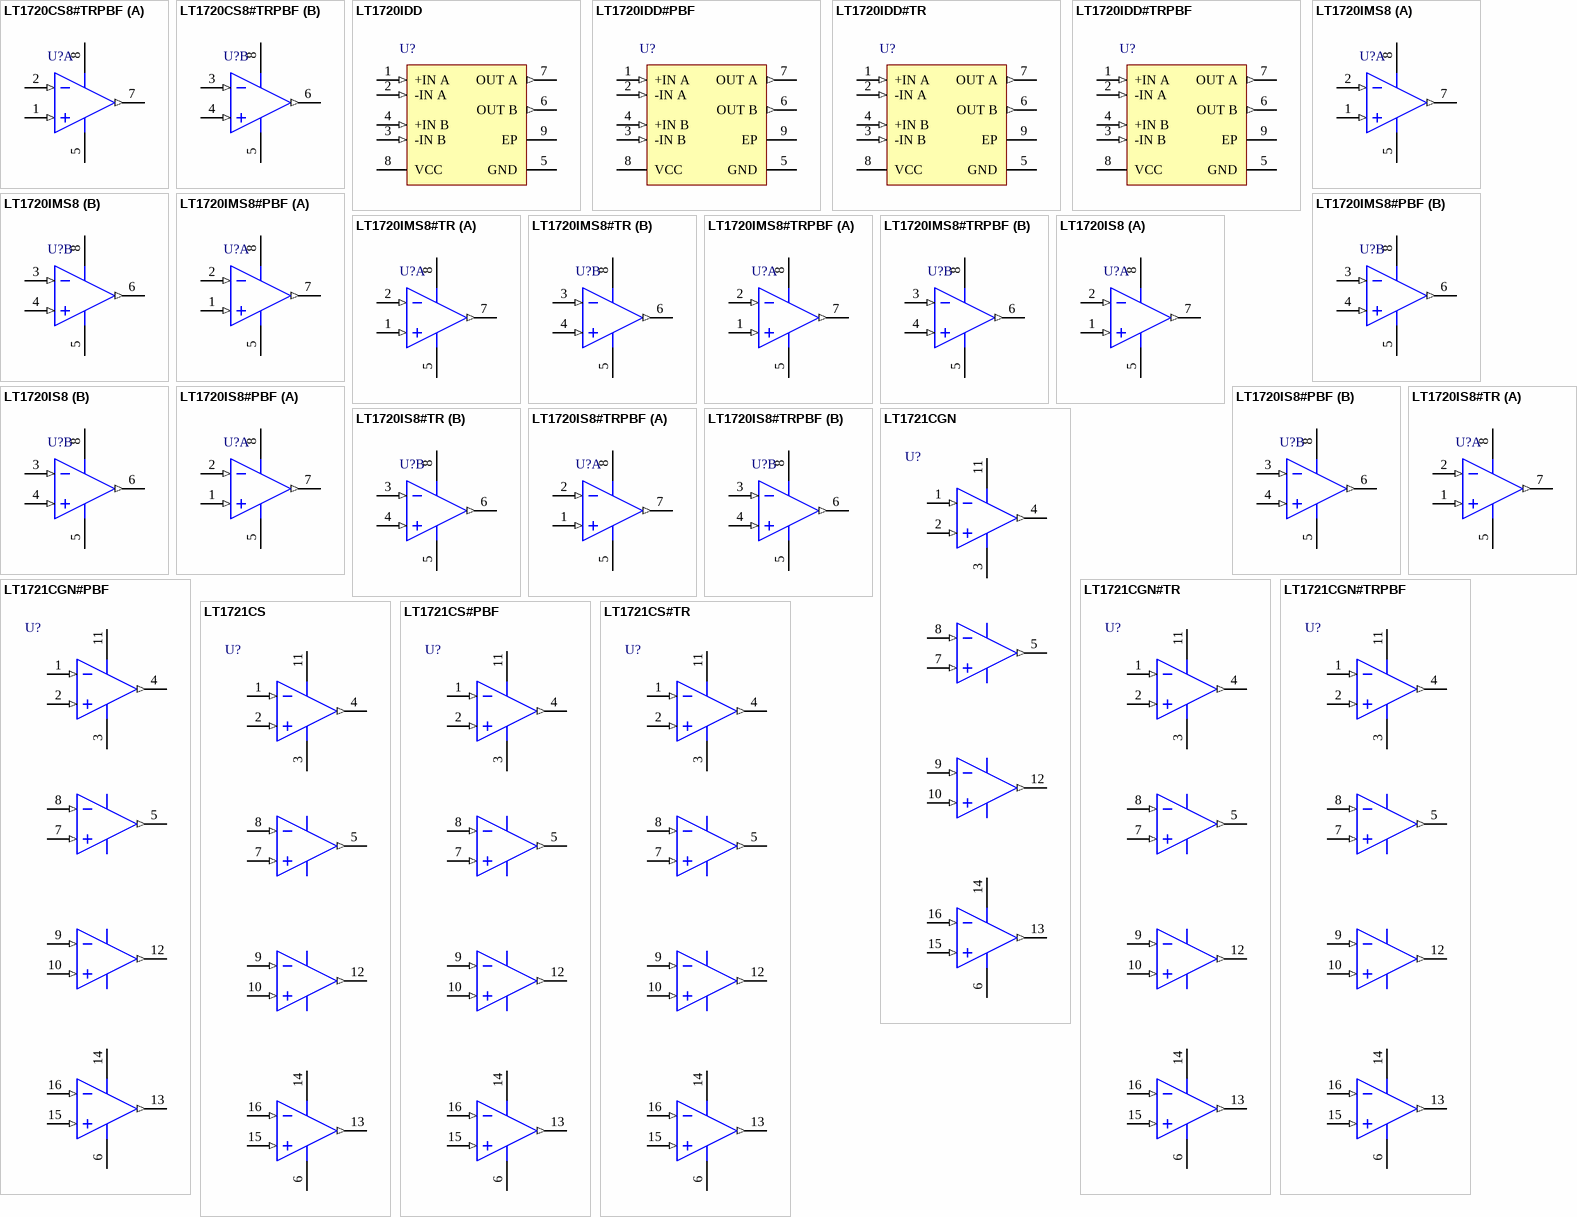
[diagram p7: symbols LT1720CS8#TRPBF to LT1721CS#TR]

## LT1720CS8#TRPBF
designator U?
4.5 ns, Single Supply 3 V / 5 V Comparator with Rail-to-Rail Outputs, 2 Channels, 2.7 to 6 V, 0 to +70 degC, 8-pin SOP (S8), Tape and Reel; Generic Part Number: LT1720; Manufacturer: Linear Technology; PartNumber: LT1720CS8#TRPBF; Channels (#): 2; Prop Delay (us): 0.0045; Supply Current (uA) Typical: 4000; Vos (mV) Guaranteed: 3; Vos (mV) Typical: 1; Vs Max (V): 6; Vs Min (V): 2.7; DatasheetVersion: Rev C; PackageReference: S8; PackageDescription: 8-Pin Plastic Small Outline (Narrow .150 Inch), Body 4.9 x 3.9 mm, Pitch 1.27 mm; Supplier 1: Digi-Key; Supplier Part Number 1: LT1720CS8#TRPBF-ND; Supplier 2: Newark; Supplier Part Number 2: 57M5829; Features: Comparator, Rail-to-Rail Out; RoHS: Y; Supply Voltage Range: 2.7 to 6 V; Mounting Technology: Surface Mount; ComponentLink1Description: Manufacturer URL; ComponentLink1URL: http://www.linear.com/; ComponentLink2Description: Datasheet; ComponentLink2URL: http://cds.linear.com/docs/en/datasheet/17201fc.pdf; ComponentLink3Description: Package Specification; ComponentLink3URL: http://cds.linear.com/docs/en/packaging/05081610_G_SO8.pdf
footprint LT-S8_N (SOP, 8-Leads, Body 4.9x3.9mm, Pitch 1.27mm, IPC Medium Density)
footprint LT-S8_L (SOP, 8-Leads, Body 4.9x3.9mm, Pitch 1.27mm, IPC High Density)
footprint LT-S8_M (SOP, 8-Leads, Body 4.9x3.9mm, Pitch 1.27mm, IPC Low Density)
pins on every part: 5 GND (power), 8 VCC (power)
part A pins: 1 +INA (in), 2 -INA (in), 7 OUTA (out)
part B pins: 3 -INB (in), 4 +INB (in), 6 OUTB (out)

## LT1720IDD
designator U?
4.5 ns, Single Supply 3 V / 5 V Comparator with Rail-to-Rail Outputs, 2 Channels, 2.7 to 6 V, -40 to +85 degC, 8-pin Plastic DFN (DD8); Generic Part Number: LT1720; Manufacturer: Linear Technology; PartNumber: LT1720IDD; Channels (#): 2; Prop Delay (us): 0.0045; Supply Current (uA) Typical: 4000; Vos (mV) Guaranteed: 3; Vos (mV) Typical: 1; Vs Max (V): 6; Vs Min (V): 2.7; DatasheetVersion: Rev C; PackageReference: DD8; PackageDescription: 8-Pin Plastic DFN, Body 3 × 3 mm, Pitch 0.5 mm; Supplier 1: Digi-Key; Supplier Part Number 1: LT1720IDD-ND; Features: Comparator, Rail-to-Rail Out; RoHS: N; Supply Voltage Range: 2.7 to 6 V; Mounting Technology: Surface Mount; Code_JEDEC: M0-229; ComponentLink1Description: Manufacturer URL; ComponentLink1URL: http://www.linear.com/; ComponentLink2Description: Datasheet; ComponentLink2URL: http://cds.linear.com/docs/en/datasheet/17201fc.pdf; ComponentLink3Description: Package Specification; ComponentLink3URL: http://cds.linear.com/docs/en/packaging/DFN_8_05-08-1698.pdf
footprint LT-DD8_V (SON, 8-Leads, Body 3x3mm, Pitch 0.5mm, Thermal Pad 2.38x1.65mm)
pins: 1 +IN A (in) "Noninverting Input of Comparator A.", 2 -IN A (in) "Inverting Input of Comparator A.", 3 -IN B (in) "Inverting Input of Comparator B.", 4 +IN B (in) "Noninverting Input of Comparator B.", 5 GND (power) "Ground.", 6 OUT B (out) "Output of Comparator B.", 7 OUT A (out) "Output of Comparator A.", 8 VCC (power) "Positive Supply Voltage.", 9 EP (power)

## LT1720IDD#PBF
designator U?
4.5 ns, Single Supply 3 V / 5 V Comparator with Rail-to-Rail Outputs, 2 Channels, 2.7 to 6 V, -40 to +85 degC, 8-pin Plastic DFN (DD8); Generic Part Number: LT1720; Manufacturer: Linear Technology; PartNumber: LT1720IDD#PBF; Channels (#): 2; Prop Delay (us): 0.0045; Supply Current (uA) Typical: 4000; Vos (mV) Guaranteed: 3; Vos (mV) Typical: 1; Vs Max (V): 6; Vs Min (V): 2.7; DatasheetVersion: Rev C; PackageReference: DD8; PackageDescription: 8-Pin Plastic DFN, Body 3 × 3 mm, Pitch 0.5 mm; Supplier 1: Digi-Key; Supplier Part Number 1: LT1720IDD#PBF-ND; Supplier 2: Farnell; Supplier Part Number 2: 2294778; Supplier 3: Newark; Supplier Part Number 3: 57M5831; Features: Comparator, Rail-to-Rail Out; RoHS: Y; Supply Voltage Range: 2.7 to 6 V; Mounting Technology: Surface Mount; Code_JEDEC: M0-229; ComponentLink1Description: Manufacturer URL; ComponentLink1URL: http://www.linear.com/; ComponentLink2Description: Datasheet; ComponentLink2URL: http://cds.linear.com/docs/en/datasheet/17201fc.pdf; ComponentLink3Description: Package Specification; ComponentLink3URL: http://cds.linear.com/docs/en/packaging/DFN_8_05-08-1698.pdf
footprint LT-DD8_V (SON, 8-Leads, Body 3x3mm, Pitch 0.5mm, Thermal Pad 2.38x1.65mm)
pins: 1 +IN A (in) "Noninverting Input of Comparator A.", 2 -IN A (in) "Inverting Input of Comparator A.", 3 -IN B (in) "Inverting Input of Comparator B.", 4 +IN B (in) "Noninverting Input of Comparator B.", 5 GND (power) "Ground.", 6 OUT B (out) "Output of Comparator B.", 7 OUT A (out) "Output of Comparator A.", 8 VCC (power) "Positive Supply Voltage.", 9 EP (power)

## LT1720IDD#TR
designator U?
4.5 ns, Single Supply 3 V / 5 V Comparator with Rail-to-Rail Outputs, 2 Channels, 2.7 to 6 V, -40 to +85 degC, 8-pin Plastic DFN (DD8), Tape and Reel; Generic Part Number: LT1720; Manufacturer: Linear Technology; PartNumber: LT1720IDD#TR; Channels (#): 2; Prop Delay (us): 0.0045; Supply Current (uA) Typical: 4000; Vos (mV) Guaranteed: 3; Vos (mV) Typical: 1; Vs Max (V): 6; Vs Min (V): 2.7; DatasheetVersion: Rev C; PackageReference: DD8; PackageDescription: 8-Pin Plastic DFN, Body 3 × 3 mm, Pitch 0.5 mm; Supplier 1: Digi-Key; Supplier Part Number 1: LT1720IDD#TR-ND; Features: Comparator, Rail-to-Rail Out; RoHS: N; Supply Voltage Range: 2.7 to 6 V; Mounting Technology: Surface Mount; Code_JEDEC: M0-229; ComponentLink1Description: Manufacturer URL; ComponentLink1URL: http://www.linear.com/; ComponentLink2Description: Datasheet; ComponentLink2URL: http://cds.linear.com/docs/en/datasheet/17201fc.pdf; ComponentLink3Description: Package Specification; ComponentLink3URL: http://cds.linear.com/docs/en/packaging/DFN_8_05-08-1698.pdf
footprint LT-DD8_V (SON, 8-Leads, Body 3x3mm, Pitch 0.5mm, Thermal Pad 2.38x1.65mm)
pins: 1 +IN A (in) "Noninverting Input of Comparator A.", 2 -IN A (in) "Inverting Input of Comparator A.", 3 -IN B (in) "Inverting Input of Comparator B.", 4 +IN B (in) "Noninverting Input of Comparator B.", 5 GND (power) "Ground.", 6 OUT B (out) "Output of Comparator B.", 7 OUT A (out) "Output of Comparator A.", 8 VCC (power) "Positive Supply Voltage.", 9 EP (power)

## LT1720IDD#TRPBF
designator U?
4.5 ns, Single Supply 3 V / 5 V Comparator with Rail-to-Rail Outputs, 2 Channels, 2.7 to 6 V, -40 to +85 degC, 8-pin Plastic DFN (DD8), Tape and Reel; Generic Part Number: LT1720; Manufacturer: Linear Technology; PartNumber: LT1720IDD#TRPBF; Channels (#): 2; Prop Delay (us): 0.0045; Supply Current (uA) Typical: 4000; Vos (mV) Guaranteed: 3; Vos (mV) Typical: 1; Vs Max (V): 6; Vs Min (V): 2.7; DatasheetVersion: Rev C; PackageReference: DD8; PackageDescription: 8-Pin Plastic DFN, Body 3 × 3 mm, Pitch 0.5 mm; Supplier 1: Digi-Key; Supplier Part Number 1: LT1720IDD#TRPBF-ND; Features: Comparator, Rail-to-Rail Out; RoHS: Y; Supply Voltage Range: 2.7 to 6 V; Mounting Technology: Surface Mount; Code_JEDEC: M0-229; ComponentLink1Description: Manufacturer URL; ComponentLink1URL: http://www.linear.com/; ComponentLink2Description: Datasheet; ComponentLink2URL: http://cds.linear.com/docs/en/datasheet/17201fc.pdf; ComponentLink3Description: Package Specification; ComponentLink3URL: http://cds.linear.com/docs/en/packaging/DFN_8_05-08-1698.pdf
footprint LT-DD8_V (SON, 8-Leads, Body 3x3mm, Pitch 0.5mm, Thermal Pad 2.38x1.65mm)
pins: 1 +IN A (in) "Noninverting Input of Comparator A.", 2 -IN A (in) "Inverting Input of Comparator A.", 3 -IN B (in) "Inverting Input of Comparator B.", 4 +IN B (in) "Noninverting Input of Comparator B.", 5 GND (power) "Ground.", 6 OUT B (out) "Output of Comparator B.", 7 OUT A (out) "Output of Comparator A.", 8 VCC (power) "Positive Supply Voltage.", 9 EP (power)

## LT1720IMS8
designator U?
4.5 ns, Single Supply 3 V / 5 V Comparator with Rail-to-Rail Outputs, 2 Channels, 2.7 to 6 V, -40 to +85 degC, 8-pin Plastic MSOP (MS8); Generic Part Number: LT1720; Manufacturer: Linear Technology; PartNumber: LT1720IMS8; Channels (#): 2; Prop Delay (us): 0.0045; Supply Current (uA) Typical: 4000; Vos (mV) Guaranteed: 3; Vos (mV) Typical: 1; Vs Max (V): 6; Vs Min (V): 2.7; DatasheetVersion: Rev C; PackageReference: MS8; PackageDescription: 8-Pin Plastic MSOP, Body 3 x 3 mm, Pitch 0.65 mm; Supplier 1: Digi-Key; Supplier Part Number 1: LT1720IMS8-ND; Features: Comparator, Rail-to-Rail Out; RoHS: N; Supply Voltage Range: 2.7 to 6 V; Mounting Technology: Surface Mount; ComponentLink1Description: Manufacturer URL; ComponentLink1URL: http://www.linear.com/; ComponentLink2Description: Datasheet; ComponentLink2URL: http://cds.linear.com/docs/en/datasheet/17201fc.pdf; ComponentLink3Description: Package Specification; ComponentLink3URL: http://cds.linear.com/docs/en/packaging/MSOP_8_05-08-1660.pdf
footprint LT-MS8_N (SOP, 8-Leads, Body 3x3mm, Pitch 0.65mm, IPC Medium Density)
footprint LT-MS8_L (SOP, 8-Leads, Body 3x3mm, Pitch 0.65mm, IPC High Density)
footprint LT-MS8_M (SOP, 8-Leads, Body 3x3mm, Pitch 0.65mm, IPC Low Density)
pins on every part: 5 GND (power), 8 VCC (power)
part A pins: 1 +INA (in), 2 -INA (in), 7 OUTA (out)
part B pins: 3 -INB (in), 4 +INB (in), 6 OUTB (out)

## LT1720IMS8#PBF
designator U?
4.5 ns, Single Supply 3 V / 5 V Comparator with Rail-to-Rail Outputs, 2 Channels, 2.7 to 6 V, -40 to +85 degC, 8-pin Plastic MSOP (MS8); Generic Part Number: LT1720; Manufacturer: Linear Technology; PartNumber: LT1720IMS8#PBF; Channels (#): 2; Prop Delay (us): 0.0045; Supply Current (uA) Typical: 4000; Vos (mV) Guaranteed: 3; Vos (mV) Typical: 1; Vs Max (V): 6; Vs Min (V): 2.7; DatasheetVersion: Rev C; PackageReference: MS8; PackageDescription: 8-Pin Plastic MSOP, Body 3 x 3 mm, Pitch 0.65 mm; Supplier 1: Digi-Key; Supplier Part Number 1: LT1720IMS8#PBF-ND; Supplier 2: Newark; Supplier Part Number 2: 57M5835; Features: Comparator, Rail-to-Rail Out; RoHS: Y; Supply Voltage Range: 2.7 to 6 V; Mounting Technology: Surface Mount; ComponentLink1Description: Manufacturer URL; ComponentLink1URL: http://www.linear.com/; ComponentLink2Description: Datasheet; ComponentLink2URL: http://cds.linear.com/docs/en/datasheet/17201fc.pdf; ComponentLink3Description: Package Specification; ComponentLink3URL: http://cds.linear.com/docs/en/packaging/MSOP_8_05-08-1660.pdf
footprint LT-MS8_N (SOP, 8-Leads, Body 3x3mm, Pitch 0.65mm, IPC Medium Density)
footprint LT-MS8_L (SOP, 8-Leads, Body 3x3mm, Pitch 0.65mm, IPC High Density)
footprint LT-MS8_M (SOP, 8-Leads, Body 3x3mm, Pitch 0.65mm, IPC Low Density)
pins on every part: 5 GND (power), 8 VCC (power)
part A pins: 1 +INA (in), 2 -INA (in), 7 OUTA (out)
part B pins: 3 -INB (in), 4 +INB (in), 6 OUTB (out)

## LT1720IMS8#TR
designator U?
4.5 ns, Single Supply 3 V / 5 V Comparator with Rail-to-Rail Outputs, 2 Channels, 2.7 to 6 V, -40 to +85 degC, 8-pin Plastic MSOP (MS8), Tape and Reel; Generic Part Number: LT1720; Manufacturer: Linear Technology; PartNumber: LT1720IMS8#TR; Channels (#): 2; Prop Delay (us): 0.0045; Supply Current (uA) Typical: 4000; Vos (mV) Guaranteed: 3; Vos (mV) Typical: 1; Vs Max (V): 6; Vs Min (V): 2.7; DatasheetVersion: Rev C; PackageReference: MS8; PackageDescription: 8-Pin Plastic MSOP, Body 3 x 3 mm, Pitch 0.65 mm; Supplier 1: Digi-Key; Supplier Part Number 1: LT1720IMS8#TR-ND; Features: Comparator, Rail-to-Rail Out; RoHS: N; Supply Voltage Range: 2.7 to 6 V; Mounting Technology: Surface Mount; ComponentLink1Description: Manufacturer URL; ComponentLink1URL: http://www.linear.com/; ComponentLink2Description: Datasheet; ComponentLink2URL: http://cds.linear.com/docs/en/datasheet/17201fc.pdf; ComponentLink3Description: Package Specification; ComponentLink3URL: http://cds.linear.com/docs/en/packaging/MSOP_8_05-08-1660.pdf
footprint LT-MS8_N (SOP, 8-Leads, Body 3x3mm, Pitch 0.65mm, IPC Medium Density)
footprint LT-MS8_L (SOP, 8-Leads, Body 3x3mm, Pitch 0.65mm, IPC High Density)
footprint LT-MS8_M (SOP, 8-Leads, Body 3x3mm, Pitch 0.65mm, IPC Low Density)
pins on every part: 5 GND (power), 8 VCC (power)
part A pins: 1 +INA (in), 2 -INA (in), 7 OUTA (out)
part B pins: 3 -INB (in), 4 +INB (in), 6 OUTB (out)

## LT1720IMS8#TRPBF
designator U?
4.5 ns, Single Supply 3 V / 5 V Comparator with Rail-to-Rail Outputs, 2 Channels, 2.7 to 6 V, -40 to +85 degC, 8-pin Plastic MSOP (MS8), Tape and Reel; Generic Part Number: LT1720; Manufacturer: Linear Technology; PartNumber: LT1720IMS8#TRPBF; Channels (#): 2; Prop Delay (us): 0.0045; Supply Current (uA) Typical: 4000; Vos (mV) Guaranteed: 3; Vos (mV) Typical: 1; Vs Max (V): 6; Vs Min (V): 2.7; DatasheetVersion: Rev C; PackageReference: MS8; PackageDescription: 8-Pin Plastic MSOP, Body 3 x 3 mm, Pitch 0.65 mm; Supplier 1: Digi-Key; Supplier Part Number 1: LT1720IMS8#TRPBF-ND; Supplier 2: Newark; Supplier Part Number 2: 57M5837; Features: Comparator, Rail-to-Rail Out; RoHS: Y; Supply Voltage Range: 2.7 to 6 V; Mounting Technology: Surface Mount; ComponentLink1Description: Manufacturer URL; ComponentLink1URL: http://www.linear.com/; ComponentLink2Description: Datasheet; ComponentLink2URL: http://cds.linear.com/docs/en/datasheet/17201fc.pdf; ComponentLink3Description: Package Specification; ComponentLink3URL: http://cds.linear.com/docs/en/packaging/MSOP_8_05-08-1660.pdf
footprint LT-MS8_N (SOP, 8-Leads, Body 3x3mm, Pitch 0.65mm, IPC Medium Density)
footprint LT-MS8_L (SOP, 8-Leads, Body 3x3mm, Pitch 0.65mm, IPC High Density)
footprint LT-MS8_M (SOP, 8-Leads, Body 3x3mm, Pitch 0.65mm, IPC Low Density)
pins on every part: 5 GND (power), 8 VCC (power)
part A pins: 1 +INA (in), 2 -INA (in), 7 OUTA (out)
part B pins: 3 -INB (in), 4 +INB (in), 6 OUTB (out)

## LT1720IS8
designator U?
4.5 ns, Single Supply 3 V / 5 V Comparator with Rail-to-Rail Outputs, 2 Channels, 2.7 to 6 V, -40 to +85 degC, 8-pin SOP (S8); Generic Part Number: LT1720; Manufacturer: Linear Technology; PartNumber: LT1720IS8; Channels (#): 2; Prop Delay (us): 0.0045; Supply Current (uA) Typical: 4000; Vos (mV) Guaranteed: 3; Vos (mV) Typical: 1; Vs Max (V): 6; Vs Min (V): 2.7; DatasheetVersion: Rev C; PackageReference: S8; PackageDescription: 8-Pin Plastic Small Outline (Narrow .150 Inch), Body 4.9 x 3.9 mm, Pitch 1.27 mm; Supplier 1: Digi-Key; Supplier Part Number 1: LT1720IS8-ND; Supplier 2: Newark; Supplier Part Number 2: 57M5838; Features: Comparator, Rail-to-Rail Out; RoHS: N; Supply Voltage Range: 2.7 to 6 V; Mounting Technology: Surface Mount; ComponentLink1Description: Manufacturer URL; ComponentLink1URL: http://www.linear.com/; ComponentLink2Description: Datasheet; ComponentLink2URL: http://cds.linear.com/docs/en/datasheet/17201fc.pdf; ComponentLink3Description: Package Specification; ComponentLink3URL: http://cds.linear.com/docs/en/packaging/05081610_G_SO8.pdf
footprint LT-S8_N (SOP, 8-Leads, Body 4.9x3.9mm, Pitch 1.27mm, IPC Medium Density)
footprint LT-S8_L (SOP, 8-Leads, Body 4.9x3.9mm, Pitch 1.27mm, IPC High Density)
footprint LT-S8_M (SOP, 8-Leads, Body 4.9x3.9mm, Pitch 1.27mm, IPC Low Density)
pins on every part: 5 GND (power), 8 VCC (power)
part A pins: 1 +INA (in), 2 -INA (in), 7 OUTA (out)
part B pins: 3 -INB (in), 4 +INB (in), 6 OUTB (out)

## LT1720IS8#PBF
designator U?
4.5 ns, Single Supply 3 V / 5 V Comparator with Rail-to-Rail Outputs, 2 Channels, 2.7 to 6 V, -40 to +85 degC, 8-pin SOP (S8); Generic Part Number: LT1720; Manufacturer: Linear Technology; PartNumber: LT1720IS8#PBF; Channels (#): 2; Prop Delay (us): 0.0045; Supply Current (uA) Typical: 4000; Vos (mV) Guaranteed: 3; Vos (mV) Typical: 1; Vs Max (V): 6; Vs Min (V): 2.7; DatasheetVersion: Rev C; PackageReference: S8; PackageDescription: 8-Pin Plastic Small Outline (Narrow .150 Inch), Body 4.9 x 3.9 mm, Pitch 1.27 mm; Supplier 1: Digi-Key; Supplier Part Number 1: LT1720IS8#PBF-ND; Supplier 2: Farnell; Supplier Part Number 2: 2254829; Supplier 3: Newark; Supplier Part Number 3: 57M5839; Features: Comparator, Rail-to-Rail Out; RoHS: Y; Supply Voltage Range: 2.7 to 6 V; Mounting Technology: Surface Mount; ComponentLink1Description: Manufacturer URL; ComponentLink1URL: http://www.linear.com/; ComponentLink2Description: Datasheet; ComponentLink2URL: http://cds.linear.com/docs/en/datasheet/17201fc.pdf; ComponentLink3Description: Package Specification; ComponentLink3URL: http://cds.linear.com/docs/en/packaging/05081610_G_SO8.pdf
footprint LT-S8_N (SOP, 8-Leads, Body 4.9x3.9mm, Pitch 1.27mm, IPC Medium Density)
footprint LT-S8_L (SOP, 8-Leads, Body 4.9x3.9mm, Pitch 1.27mm, IPC High Density)
footprint LT-S8_M (SOP, 8-Leads, Body 4.9x3.9mm, Pitch 1.27mm, IPC Low Density)
pins on every part: 5 GND (power), 8 VCC (power)
part A pins: 1 +INA (in), 2 -INA (in), 7 OUTA (out)
part B pins: 3 -INB (in), 4 +INB (in), 6 OUTB (out)